# Altium integrated library SSW-108-22-X-S-VS.IntLib: 1 symbol
Pins are listed as number, name and electrical type; pins without a type are passive.

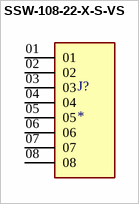
[diagram p0: symbol SSW-108-22-X-S-VS]

## SSW-108-22-X-S-VS
designator J?
8 Position Receptacle Connector 0.100 (2.54mm) Surface Mount Gold; MP: SSW-108-22-G-S-VS; MF: Samtec; Check_prices: https://www.snapeda.com/parts/SSW-108-22-G-S-VS/Samtec/view-part/3266314/?ref=eda; SnapEDA_Link: https://www.snapeda.com/parts/SSW-108-22-G-S-VS/Samtec/view-part/3266314/?ref=snap; Price: None; Availability: Bad; Value: *; Purchase-URL: https://pricing.snapeda.com/search/part/SSW-108-22-G-S-VS/?ref=eda; Package: None
footprint SAMTEC_SSW-108-22-X-S-VS
pins: 01, 02, 03, 04, 05, 06, 07, 08